# EAGLE library part MAGI³C-VDRM_TO263-7EP_171012401 (library WPME-VDRM)
MagI³C-VDRM Variable Step Down Regulator Module Characteristics Low conducted and radiated EMI (compliant to EN55022 class B / CISPR-22) TO263-7EP Leaded package for easy manufacturing and prototyping Simple layout Wide input voltage range for input transient capability Support ambient temperatures up to + 105 °C 2 solder cycles supported QFN Low profile package Simple application circuit (only 4 external components required) Optional multiple features (adj.frequency, adj.softstart, power good, sequencing, tracking, synchronization to external clock, adjustable undervoltage lockout) Wide input voltage range QFN41 type 3 solder cycles supported LGA-16EP Low profile LGA-package Stand alone solution (CIN and COUT integrated, 2 external components to set VOUT) Ideal for space constrained applications 2 solder cycles supported Applications Point-of-Load DC-DC applications from 24V, 18V, 15V, 12V, 9V, 5V industrial rails Industrial, Test & Measurement, Medical applications System power supplies I/O interface power supply DSPs, FPGAs, MCUs and MPUs supply High density distributed power systems Telecommunication applications <https://www.we-online.com/catalog/media/o33388v209%20MagIC_VDRM_pf2.jpg> Details see: https://www.we-online.com/catalog/en/MAGIC-VDRM/ Updated by Ella Wu 2020-07-20 2020(C) Wurth Elektronik
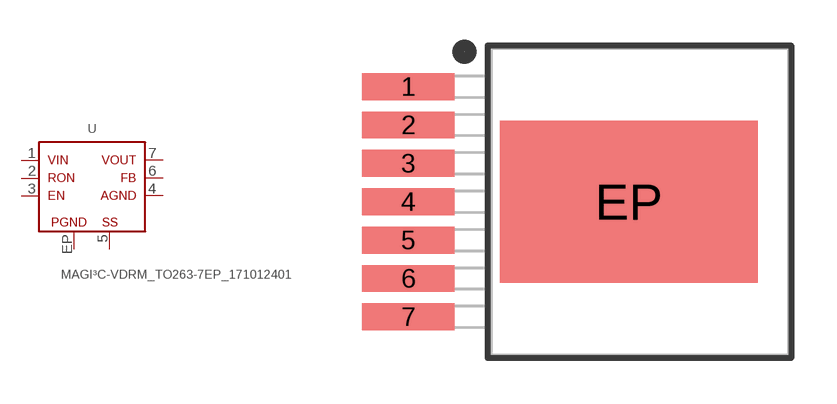
[diagram p4: symbol with the pads of MAGI³C-VDRM_TO263-7EP; footprint MAGI³C-VDRM_TO263-7EP]

Designator prefix U

## MAGI³C-VDRM_TO263-7EP_171012401 (DATASHEET-URL: https://www.we-online.com/catalog/datasheet/171012401.pdf; I-OUTPUT: 1A; MOUNT: SMT; PART-NUMBER: 171012401; V-INPUT: 6-42V; V-OUTPUT: 5-24V; VALUE: 171012401)  [MAGI³C-VDRM_TO263-7EP]
1  VIN  pas
2  RON  pas
3  EN  pas
4  AGND  pas
5  SS  pas
6  FB  pas
7  VOUT  pas
EP  PGND  pas

## Footprint MAGI³C-VDRM_TO263-7EP (pad centres in mm)
MagI³C-VDRM Variable Step Down Regulator Module Size : TO263-7EP
smd 3.06 x 0.89: 1 -7.305,3.81; 2 -7.305,2.54; 3 -7.305,1.27; 4 -7.305,0; 5 -7.305,-1.27; 6 -7.305,-2.54; 7 -7.305,-3.81
smd 8.54 x 5.35: EP 0,0